# Altium schematic symbol library L0603.SchLib: 1 symbol
Pins are listed as number, name and electrical type; pins without a type are passive.

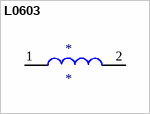
[diagram p0: symbol L0603]

## L0603
designator *
footprint L0603
pins: 1, 2